# Altium footprint library 7621_cmp.PcbLib: 24 footprints (part 1 of 2)
Each footprint in its own frame and in the unit in brackets; x right, y up, seen from the top. Pads: shape width x height; smd on the part's side, far side on the other; paste and mask are expansions set on the pad; w line width, h text height; cw(c..) or ccw(c..) is an arc to the next point about the centre after c.
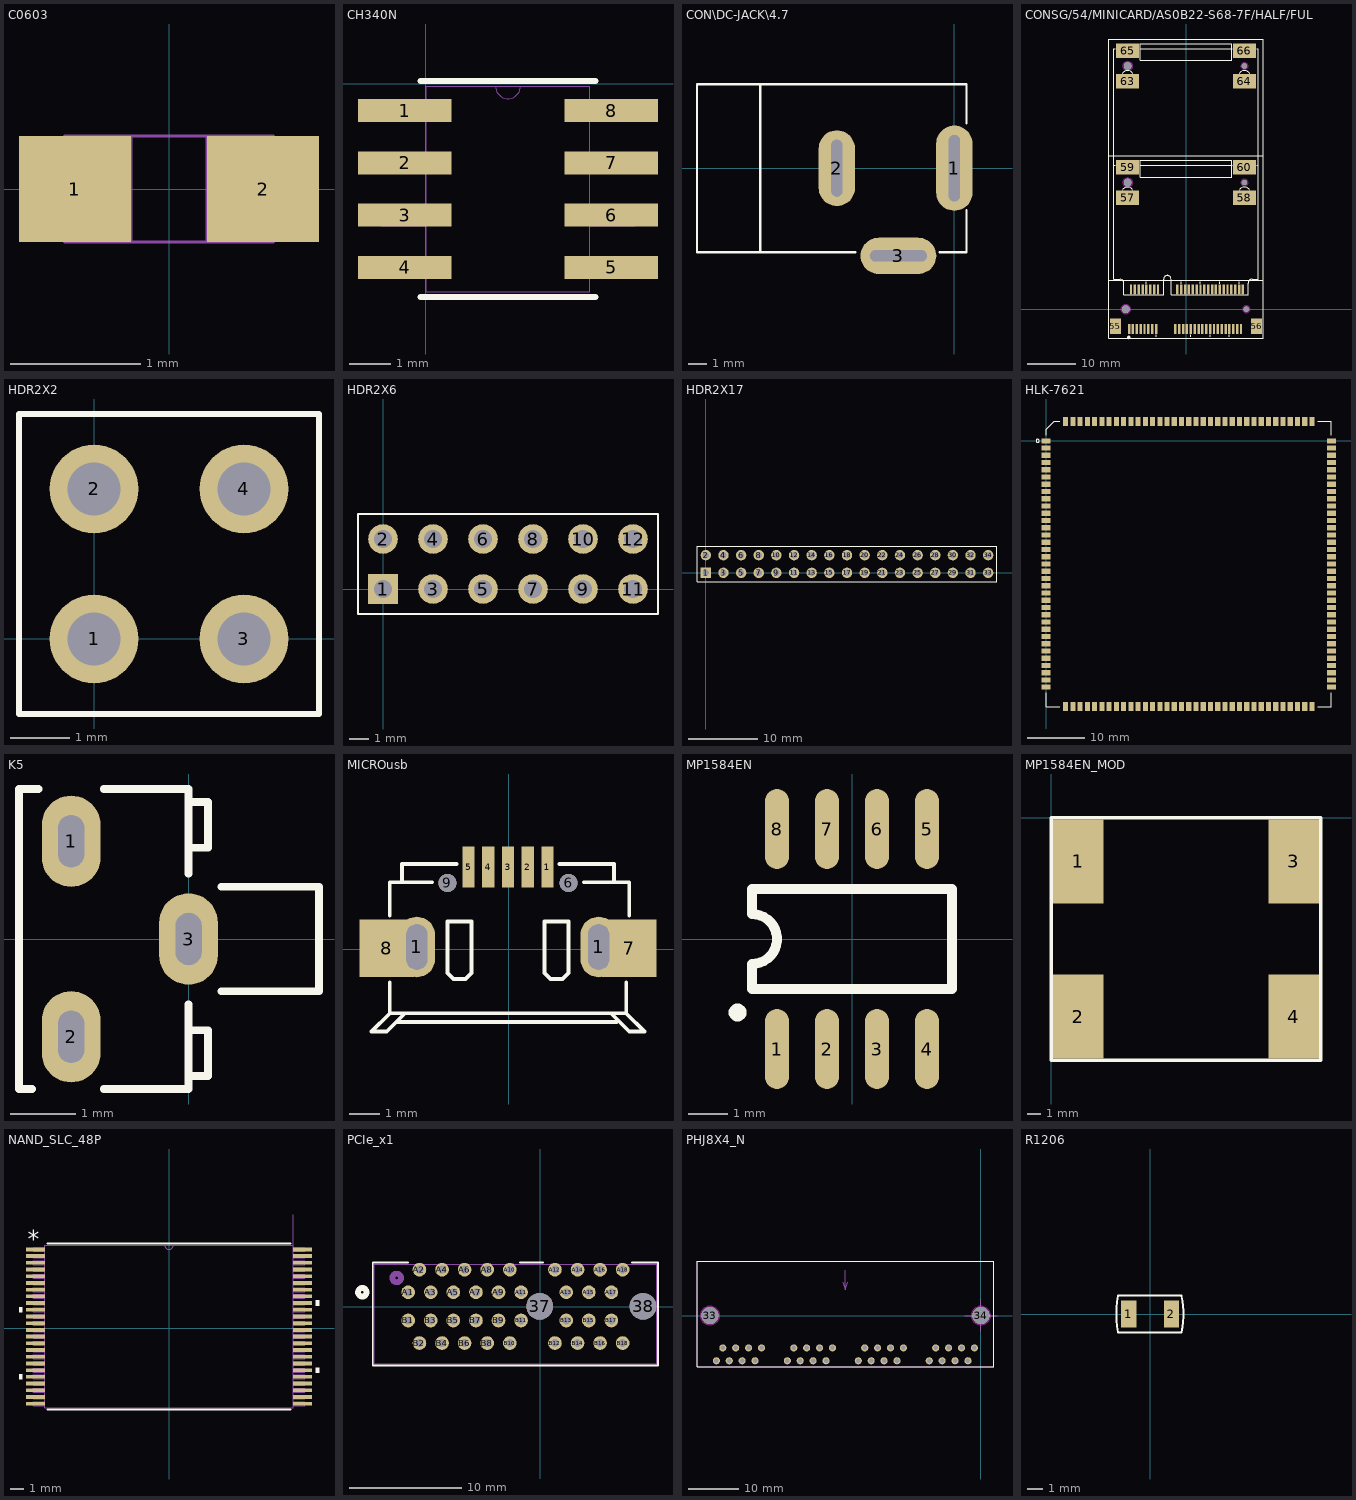
[diagram p0: the footprints below, top view; thin cyan lines are the x and y axes]

## C0603 [mil]
pads (2):
  rect 33.78x32 smd paste+0 mask+0: 1(-28.39,0) 2(28.39,0)
Mechanical 13:
  circle w0: c-23.39,0 r3
  lines w1: -31.5,-16 -31.5,16 ; -31.5,-16 -11.5,-16 -11.5,16 -31.5,16 ; -31.5,-16 31.5,-16 ; -31.5,-16 -31.5,16 ; -31.5,16 31.5,16 ; 31.5,-16 11.5,-16 11.5,16 31.5,16 ; 31.5,-16 31.5,16 ; 31.5,-16 31.5,16
3D body: height 10, standoff 0, extent 0,0 10,10

## CH340N [mm]
pads (8):
  rect 2.27x0.558 smd paste+0 mask+0: 1(-0.516,-0.66) 2(-0.516,-1.93) 3(-0.516,-3.2) 4(-0.516,-4.47) 5(4.512,-4.47) 6(4.512,-3.2) 7(4.512,-1.93) 8(4.512,-0.66)
Top Overlay:
  lines w0.152: -0.123,-5.194 4.119,-5.194 ; -0.123,0.064 4.119,0.064
Mechanical 13:
  lines w0: 1.693,-0.063 ccw(c1.998,-0.063) 2.303,-0.063
  lines w0.025: -1.101,-4.724 0.004,-4.724 0.004,-4.216 -1.101,-4.216 -1.101,-4.724 ; -1.101,-3.454 0.004,-3.454 0.004,-2.946 -1.101,-2.946 -1.101,-3.454 ; -1.101,-2.184 0.004,-2.184 0.004,-1.676 -1.101,-1.676 -1.101,-2.184 ; -1.101,-0.914 0.004,-0.914 0.004,-0.406 -1.101,-0.406 -1.101,-0.914 ; 0.004,-5.067 0.004,-0.063 3.992,-0.063 3.992,-5.067 0.004,-5.067 ; 3.992,-4.724 5.097,-4.724 5.097,-4.216 3.992,-4.216 3.992,-4.724 ; 3.992,-3.454 5.097,-3.454 5.097,-2.946 3.992,-2.946 3.992,-3.454 ; 3.992,-2.184 5.097,-2.184 5.097,-1.676 3.992,-1.676 3.992,-2.184 ; 3.992,-0.914 5.097,-0.914 5.097,-0.406 3.992,-0.406 3.992,-0.914
3D body: height 0.25, standoff 0, extent 1.998,-2.565 2.252,-2.311

## CON\DC-JACK\4.7 [mm]
pads (3):
  oval 1.956x4.572 hole 0.6 slot 3.556 at 90 deg: 1(0,0)
  oval 1.956x4.064 hole 0.6 slot 3.048 at 90 deg: 2(-6.3,0)
  oval 4.064x1.956 hole 0.6 slot 3.048 at 0 deg: 3(-3,-4.7)
Top Overlay:
  lines w0.127: -10.4,-4.5 -10.4,4.5 ; -5.3,-4.5 -13.8,-4.5 -13.8,4.5 0.65,4.5 0.65,2.4 ; -0.8,-4.5 0.65,-4.5 0.65,-2.25

## CONSG/54/MINICARD/AS0B22-S68-7F/HALF/FUL [mm]
pads (68):
  rect 0.508x2 smd: 1(-11.8,-4.1) 2(-11.4,4.1) 3(-11,-4.1) 4(-10.6,4.1) 5(-10.2,-4.1) 6(-9.8,4.1) 7(-9.4,-4.1) 8(-9,4.1) 9(-8.6,-4.1) 10(-8.2,4.1) 11(-7.8,-4.1) 12(-7.4,4.1) 13(-7,-4.1) 14(-6.6,4.1) 15(-6.2,-4.1) 16(-5.8,4.1) 17(-2.2,-4.1) 18(-1.8,4.1) 19(-1.4,-4.1) 20(-1,4.1) 21(-0.6,-4.1) 22(-0.2,4.1) 23(0.2,-4.1) 24(0.6,4.1) 25(1,-4.1) 26(1.4,4.1) 27(1.8,-4.1) 28(2.2,4.1) 29(2.6,-4.1) 30(3,4.1) 31(3.4,-4.1) 32(3.8,4.1) 33(4.2,-4.1) 34(4.6,4.1) 35(5,-4.1) 36(5.4,4.1) 37(5.8,-4.1) 38(6.2,4.1) 39(6.6,-4.1) 40(7,4.1) 41(7.4,-4.1) 42(7.8,4.1) 43(8.2,-4.1) 44(8.6,4.1) 45(9,-4.1) 46(9.4,4.1) 47(9.8,-4.1) 48(10.2,4.1) 49(10.6,-4.1) 50(11,4.1) 51(11.4,-4.1) 52(11.8,4.1)
  round 1.6 hole 1.6 unplated: 53(-12.5,0) 61(-12.1,26.25) 67(-12.1,50.4)
  round 1.1 hole 1.1 unplated: 54(12.5,0) 62(12.1,26.25) 68(12.1,50.4)
  rect 2.3x3.2 smd: 55(-14.65,-3.5) 56(14.65,-3.5)
  rect 4.8x3 smd: 57(-12.1,23.1) 58(12.1,23.1) 59(-12.1,29.4) 60(12.1,29.4) 63(-12.1,47.25) 64(12.1,47.25) 65(-12.1,53.55) 66(12.1,53.55)
Top Overlay:
  region: -11.51,-5.817 -11.536,-5.682 -11.613,-5.568 -11.727,-5.491 -11.862,-5.464 -11.997,-5.491 -12.111,-5.568 -12.187,-5.682 -12.214,-5.817 -12.187,-5.951 -12.111,-6.066 -11.997,-6.142 -11.862,-6.169 -11.727,-6.142 -11.613,-6.066 -11.536,-5.951
  lines w0.127: -14.65,29.8 -15,29.8 -15,6.2 ; -14.65,53.95 -15,53.95 -15,6.2 ; -13.2,24.7 cw(c-12.1,23.992) -11,24.7 ; -13.2,48.85 cw(c-12.1,48.142) -11,48.85 ; -9.6,29.8 9.55,29.8 ; -9.6,53.95 9.55,53.95 ; -8.2,5.3 -8.2,5.7 ; -6.2,-5.7 -6.2,-5.3 ; -1,5.3 -1,5.7 ; 1,-5.7 1,-5.3 ; 3,5.3 3,5.7 ; 5,-5.7 5,-5.3 ; 7,5.3 7,5.7 ; 9,-5.7 9,-5.3 ; 11,5.3 11,5.7 ; 11,24.7 cw(c12.1,23.992) 13.2,24.7 ; 11,48.85 cw(c12.1,48.142) 13.2,48.85 ; 14.65,29.8 15,29.8 15,6.2 ; 14.65,53.95 15,53.95 15,6.2 ; -16,-6 -16,6 ; -16,-6 16,-6 ; -16,-6 -16,56 16,56 16,-6 ; -16,-6 16,-6 ; -16,-6 -16,31.85 16,31.85 16,-6 ; -16,-6 16,-6 ; -16,-6 -16,6 ; -16,-6 16,-6 ; -16,6 16,6 ; -16,6 16,6 ; -15,6.2 -13.61,6.2 ; -15,6.2 -13.61,6.2 ; -13.611,6.2 cw(c-13.637,5.413) -12.85,5.45 ; -13.611,6.2 cw(c-13.637,5.413) -12.85,5.45 ; -12.85,3 -4.6,3 ; -12.85,3 -12.85,5.45 ; -12.85,3 -4.6,3 ; -12.85,3 -12.85,5.45 ; -4.6,3 -4.6,6.25 ; -4.6,3 -4.6,6.25 ; -4.6,6.25 cw(c-3.85,6.25) -3.1,6.25 ; -4.6,6.25 cw(c-3.85,6.25) -3.1,6.25 ; -3.1,3 12.9,3 ; -3.1,3 -3.1,6.25 ; -3.1,3 12.9,3 ; -3.1,3 -3.1,6.25 ; 12.9,3 12.9,5.4 ; 12.9,3 12.9,5.4 ; 12.9,5.4 cw(c13.669,5.432) 13.71,6.2 ; 12.9,5.4 cw(c13.669,5.432) 13.71,6.2 ; 13.71,6.2 15,6.2 ; 13.71,6.2 15,6.2 ; 16,-6 16,6 ; 16,-6 16,6 ; -9.5,27.4 -9.5,30.9 9.5,30.9 9.5,27.4 -9.5,27.4 ; -9.5,51.55 -9.5,55.05 9.5,55.05 9.5,51.55 -9.5,51.55
Keep-Out Layer:
  drawing of 6 lines, arcs and shapes, not listed

## HDR2X2 [mm] "Connector; Header; 2x2 Position"
height 1
pads (4):
  round 1.5 hole 0.9: 1(0,0) 2(0,2.54) 3(2.54,0) 4(2.54,2.54)
Top Overlay:
  lines w0.1: -1.27,-1.27 -1.27,3.81 3.81,3.81 3.81,-1.27 -1.27,-1.27

## HDR2X6 [mm] "Connector; Header; 6x2 Position"
pads (12):
  rect 1.5x1.5 hole 0.9: 1(0,0)
  round 1.5 hole 0.9: 2(0,2.54) 3(2.54,0) 4(2.54,2.54) 5(5.08,0) 6(5.08,2.54) 7(7.62,0) 8(7.62,2.54) 9(10.16,0) 10(10.16,2.54) 11(12.7,0) 12(12.7,2.54)
Top Overlay:
  lines w0.1: -1.27,-1.27 -1.27,3.81 13.97,3.81 13.97,-1.27 -1.27,-1.27

## HDR2X17 [mm] "Connector; Header; 17x2 Position"
height 1
pads (34):
  rect 1.5x1.5 hole 0.9: 1(0,0)
  round 1.5 hole 0.9: 2(0,2.54) 3(2.54,0) 4(2.54,2.54) 5(5.08,0) 6(5.08,2.54) 7(7.62,0) 8(7.62,2.54) 9(10.16,0) 10(10.16,2.54) 11(12.7,0) 12(12.7,2.54) 13(15.24,0) 14(15.24,2.54) 15(17.78,0) 16(17.78,2.54) 17(20.32,0) 18(20.32,2.54) 19(22.86,0) 20(22.86,2.54) 21(25.4,0) 22(25.4,2.54) 23(27.94,0) 24(27.94,2.54) 25(30.48,0) 26(30.48,2.54) 27(33.02,0) 28(33.02,2.54) 29(35.56,0) 30(35.56,2.54) 31(38.1,0) 32(38.1,2.54) 33(40.64,0) 34(40.64,2.54)
Top Overlay:
  lines w0.1: -1.27,-1.27 41.91,-1.27 41.91,3.81 -1.27,3.81 -1.27,-1.27

## HLK-7621 [mm]
height 1
pads (141):
  rect 1.6x0.9 smd: 1(0,0) 2(0,-1.27) 3(0,-2.54) 4(0,-3.81) 5(0,-5.08) 6(0,-6.35) 7(0,-7.62) 8(0,-8.89) 9(0,-10.16) 10(0,-11.43) 11(0,-12.7) 12(0,-13.97) 13(0,-15.24) 14(0,-16.51) 15(0,-17.78) 16(0,-19.05) 17(0,-20.32) 18(0,-21.59) 19(0,-22.86) 20(0,-24.13) 21(0,-25.4) 22(0,-26.67) 23(0,-27.94) 24(0,-29.21) 25(0,-30.48) 26(0,-31.75) 27(0,-33.02) 28(0,-34.29) 29(0,-35.56) 30(0,-36.83) 31(0,-38.1) 32(0,-39.37) 33(0,-40.64) 34(0,-41.91) 35(0,-43.18) 71(50,-43.18) 72(50,-41.91) 73(50,-40.64) 74(50,-39.37) 75(50,-38.1) 76(50,-36.83) 77(50,-35.56) 78(50,-34.29) 79(50,-33.02) 80(50,-31.75) 81(50,-30.48) 82(50,-29.21) 83(50,-27.94) 84(50,-26.67) 85(50,-25.4) 86(50,-24.13) 87(50,-22.86) 88(50,-21.59) 89(50,-20.32) 90(50,-19.05) 91(50,-17.78) 92(50,-16.51) 93(50,-15.24) 94(50,-13.97) 95(50,-12.7) 96(50,-11.43) 97(50,-10.16) 98(50,-8.89) 99(50,-7.62) 100(50,-6.35) 101(50,-5.08) 102(50,-3.81) 103(50,-2.54) 104(50,-1.27) 105(50,0)
  rect 0.9x1.6 smd: 36(3.41,-46.59) 37(4.68,-46.59) 38(5.95,-46.59) 39(7.22,-46.59) 40(8.49,-46.59) 41(9.76,-46.59) 42(11.03,-46.59) 43(12.3,-46.59) 44(13.57,-46.59) 45(14.84,-46.59) 46(16.11,-46.59) 47(17.38,-46.59) 48(18.65,-46.59) 49(19.92,-46.59) 50(21.19,-46.59) 51(22.46,-46.59) 52(23.73,-46.59) 53(25,-46.59) 54(26.27,-46.59) 55(27.54,-46.59) 56(28.81,-46.59) 56(28.81,-46.59) 57(30.08,-46.59) 58(31.35,-46.59) 59(32.62,-46.59) 60(33.89,-46.59) 61(35.16,-46.59) 62(36.43,-46.59) 63(37.7,-46.59) 64(38.97,-46.59) 65(40.24,-46.59) 66(41.51,-46.59) 67(42.78,-46.59) 68(44.05,-46.59) 69(45.32,-46.59) 70(46.59,-46.59) 106(46.59,3.41) 107(45.32,3.41) 108(44.05,3.41) 109(42.78,3.41) 110(41.51,3.41) 111(40.24,3.41) 112(38.97,3.41) 113(37.7,3.41) 114(36.43,3.41) 115(35.16,3.41) 116(33.89,3.41) 117(32.62,3.41) 118(31.35,3.41) 119(30.08,3.41) 120(28.81,3.41) 121(27.54,3.41) 122(26.27,3.41) 123(25,3.41) 124(23.73,3.41) 125(22.46,3.41) 126(21.19,3.41) 127(19.92,3.41) 128(18.65,3.41) 129(17.38,3.41) 130(16.11,3.41) 131(14.84,3.41) 132(13.57,3.41) 133(12.3,3.41) 134(11.03,3.41) 135(9.76,3.41) 136(8.49,3.41) 137(7.22,3.41) 138(5.95,3.41) 139(4.68,3.41) 140(3.41,3.41)
Top Overlay:
  circle w0.15: c-1.5,0 r0.283
  lines w0.15: 0,-44.18 0,-46.59 2.41,-46.59 ; 0,1 0,2 1.41,3.41 2.41,3.41 ; 47.59,-46.59 50,-46.59 50,-44.18 ; 47.59,3.41 50,3.41 50,1

## K5 [mm]
pads (3):
  oval 0.9x1.4 hole 0.4 slot 0.8 at 90 deg: 1(-1.8,1.5) 2(-1.8,-1.5) 3(0,0)
Top Overlay:
  lines w0.12: -2.4,-2.3 -2.6,-2.3 -2.6,2.3 -2.3,2.3 ; -1.3,-2.3 0,-2.3 0,-1 ; -1.3,2.3 0,2.3 0,1 ; 0,-2.1 0.3,-2.1 0.3,-1.4 0,-1.4 ; 0,1.4 0.3,1.4 0.3,2.1 0,2.1 ; 0.5,-0.8 2,-0.8 2,0.8 0.5,0.8

## MICROusb [mm]
pads (11):
  oval 1.2x2 hole 0.7 slot 1.5 at 90 deg: 1(-3.028,0.081) 1(2.972,0.081)
  rect 0.4x1.35 smd: 1(1.28,2.719) 2(0.63,2.719) 3(-0.02,2.719) 4(-0.67,2.719) 5(-1.32,2.719)
  round 0.6 hole 0.6: 6(1.98,2.194) 9(-2.02,2.194)
  rect 1.8x1.9 smd: 7(3.98,0.044) 8(-4.02,0.044)
Top Overlay:
  lines w0.127: -3.92,-1.081 -3.92,-2.106 ; -3.92,1.119 -3.92,2.219 -2.52,2.219 ; -3.704,-2.391 3.571,-2.391 ; -3.52,2.219 -3.52,2.819 -1.72,2.819 ; -3.42,-2.106 -4.02,-2.706 -4.52,-2.706 -3.92,-2.106 ; 1.68,2.819 3.48,2.819 3.48,2.219 ; 2.48,2.219 3.98,2.219 3.98,1.119 ; 3.38,-2.106 3.98,-2.706 4.48,-2.706 3.88,-2.106 ; 3.88,-1.081 3.88,-2.106 ; -3.92,-2.106 3.88,-2.106 ; -2.02,-0.781 -2.02,0.919 -1.22,0.919 -1.22,-0.781 -1.42,-0.981 -1.82,-0.981 -2.02,-0.781 ; 1.18,-0.781 1.38,-0.981 1.78,-0.981 1.98,-0.781 1.98,0.919 1.18,0.919 1.18,-0.781

## MP1584EN [mil]
height 78.35
pads (8):
  oval 24x80 smd: 1(-75,-110) 2(-25,-110) 3(25,-110) 4(75,-110) 5(75,110) 6(25,110) 7(-25,110) 8(-75,110)
Top Overlay:
  circle w10: c-114.46,-73.5 r3.94
  lines w10: -100,-50 100,-50 100,50 -100,50 -100,25 cw(c-100,0) -100,-25 -100,-50
3D body "SOP8.step": height 67, standoff 0, extent -95.01,-118 94.99,118

## MP1584EN_MOD [mm]
pads (4):
  rect 3.75x6.25 smd paste+0 mask+0: 1(2,-3.25) 2(2,-14.75) 3(18,-3.25) 4(18,-14.75)
Top Overlay:
  lines w0.254: 0,-18 20,-18 20,0 0,0 0,-18

## NAND_SLC_48P [mil]
pads (48):
  rect 56.15x11 smd paste+0 mask+0: 1(-392.08,231.38) 2(-392.08,211.69) 3(-392.08,192.01) 4(-392.08,172.32) 5(-392.08,152.64) 6(-392.08,132.95) 7(-392.08,113.27) 8(-392.08,93.58) 9(-392.08,73.9) 10(-392.08,54.21) 11(-392.08,34.53) 12(-392.08,14.84) 13(-392.08,-4.84) 14(-392.08,-24.53) 15(-392.08,-44.21) 16(-392.08,-63.9) 17(-392.08,-83.58) 18(-392.08,-103.27) 19(-392.08,-122.95) 20(-392.08,-142.64) 21(-392.08,-162.32) 22(-392.08,-182.01) 23(-392.08,-201.69) 24(-392.08,-221.38) 25(392.08,-221.38) 26(392.08,-201.69) 27(392.08,-182.01) 28(392.08,-162.32) 29(392.08,-142.64) 30(392.08,-122.95) 31(392.08,-103.27) 32(392.08,-83.58) 33(392.08,-63.9) 34(392.08,-44.21) 35(392.08,-24.53) 36(392.08,-4.84) 37(392.08,14.84) 38(392.08,34.53) 39(392.08,54.21) 40(392.08,73.9) 41(392.08,93.58) 42(392.08,113.27) 43(392.08,132.95) 44(392.08,152.64) 45(392.08,172.32) 46(392.08,192.01) 47(392.08,211.69) 48(392.08,231.38)
Top Overlay:
  region: -430.15,61.71 -440.15,61.71 -440.15,46.71 -430.15,46.71
  region: -430.15,-135.14 -440.15,-135.14 -440.15,-150.14 -430.15,-150.14
  region: 430.15,-115.45 440.15,-115.45 440.15,-130.45 430.15,-130.45
  region: 430.15,81.4 440.15,81.4 440.15,66.4 430.15,66.4
  lines w6: -357.08,-238 357.08,-238 ; -357.08,248 357.08,248
  text "*" at -414.58,237.38 h50
Mechanical 7:
  lines w1: 364,5 364,333
Mechanical 13:
  drawing of 197 lines, arcs and shapes, not listed
3D body: height 10, standoff 0, extent 0,5 10,15

## PCIe_x1 [mm]
pads (38):
  round 2.362 hole 2.362 unplated: 37(-0.034,0.02) 38(9.116,0.02)
  round 1.21 hole 0.711 mask+0: A1(-11.684,1.27) A2(-10.684,3.27) A3(-9.684,1.27) A4(-8.684,3.27) A5(-7.684,1.27) A6(-6.684,3.27) A7(-5.684,1.27) A8(-4.684,3.27) A9(-3.684,1.27) A10(-2.684,3.27) A11(-1.684,1.27) A12(1.316,3.27) A13(2.316,1.27) A14(3.316,3.27) A15(4.316,1.27) A16(5.316,3.27) A17(6.316,1.27) A18(7.316,3.27) B1(-11.684,-1.23) B2(-10.684,-3.23) B3(-9.684,-1.23) B4(-8.684,-3.23) B5(-7.684,-1.23) B6(-6.684,-3.23) B7(-5.684,-1.23) B8(-4.684,-3.23) B9(-3.684,-1.23) B10(-2.684,-3.23) B11(-1.684,-1.23) B12(1.316,-3.23) B13(2.316,-1.23) B14(3.316,-3.23) B15(4.316,-1.23) B16(5.316,-3.23) B17(6.316,-1.23) B18(7.316,-3.23)
Top Overlay:
  circle w0.508: c-15.748,1.27 r0.381
  lines w0.152: -11.684,3.897 -14.811,3.897 -14.811,-5.207 10.443,-5.207 10.443,3.897 8.145,3.897 ; -1.778,3.897 0.254,3.897
Bottom Overlay:
  circle w0.508: c-15.748,1.27 r0.381
Mechanical 13:
  circle w0.508: c-12.7,2.54 r0.381
  lines w0.025: -14.684,-5.08 10.316,-5.08 10.316,3.77 -14.684,3.77 -14.684,-5.08
3D body: height 0.25, standoff 0, extent -11.684,1.27 -11.43,1.524

## PHJ8X4_N [mil]
height 525
pads (34):
  round 55 hole 35: 1(-50,-250) 2(-100,-350) 3(-150,-250) 4(-200,-350) 5(-250,-250) 6(-300,-350) 7(-350,-250) 8(-400,-350) 9(-600,-250) 10(-650,-350) 11(-700,-250) 12(-750,-350) 13(-800,-250) 14(-850,-350) 15(-900,-250) 16(-950,-350) 17(-1150,-250) 18(-1200,-350) 19(-1250,-250) 20(-1300,-350) 21(-1350,-250) 22(-1400,-350) 23(-1450,-250) 24(-1500,-350) 25(-1700,-250) 26(-1750,-350) 27(-1800,-250) 28(-1850,-350) 29(-1900,-250) 30(-1950,-350) 31(-2000,-250) 32(-2050,-350)
  round 132 hole 132 unplated: 33(-2100,0) 34(0,0)
Top Overlay:
  lines w5: -2200,-395 100,-395 100,420 -2200,420 -2200,-395
Keep-Out Layer:
  pour cut-out: -2023.63,0 -2025.1,14.9 -2029.45,29.22 -2036.5,42.43 -2046,54 -2057.57,63.5 -2070.78,70.55 -2085.1,74.9 -2100,76.37 -2114.9,74.9 -2129.22,70.55 -2142.43,63.5 -2154,54 -2163.5,42.43 -2170.55,29.22 -2174.9,14.9 -2176.37,0 -2174.9,-14.9 -2170.55,-29.22 -2163.5,-42.43 -2154,-54 -2142.43,-63.5 -2129.22,-70.55 -2114.9,-74.9 -2100,-76.37 -2085.1,-74.9 -2070.78,-70.55 -2057.57,-63.5 -2046,-54 -2036.5,-42.43 -2029.45,-29.22 -2025.1,-14.9
  pour cut-out: 76.37,0 74.9,14.9 70.55,29.22 63.5,42.43 54,54 42.43,63.5 29.22,70.55 14.9,74.9 0,76.37 -14.9,74.9 -29.22,70.55 -42.43,63.5 -54,54 -63.5,42.43 -70.55,29.22 -74.9,14.9 -76.37,0 -74.9,-14.9 -70.55,-29.22 -63.5,-42.43 -54,-54 -42.43,-63.5 -29.22,-70.55 -14.9,-74.9 0,-76.37 14.9,-74.9 29.22,-70.55 42.43,-63.5 54,-54 63.5,-42.43 70.55,-29.22 74.9,-14.9
Mechanical 16:
  lines w5: -1070,260 -1050,200 ; -1050,350 -1050,200 ; -1030,260 -1050,200 ; -124.95,0 125.05,0 ; 0,-125 0,125 ; -2200,-395 -2200,420 100,420 100,-395 -2200,-395

## R1206 [mm]
height 1.2
pads (2):
  rect 1x1.8 smd: 1(-1.4,0) 2(1.4,0)
Top Overlay:
  lines w0.127: -2.1,-1.2 2.05,-1.2 ; -2.1,1.2 2.05,1.2 ; -2.1,-1.201 cw(c5,0) -2.1,1.201 ; 2.049,1.204 cw(c-2.642,0) 2.051,-1.196